# EAGLE library part 4116R-1-103LF (library Resistor Array)
RES ARRAY 8 RES 10K OHM 16DIP Manufacturer's datasheet <https://www.bourns.com/docs/Product-Datasheets/4100R.pdf>
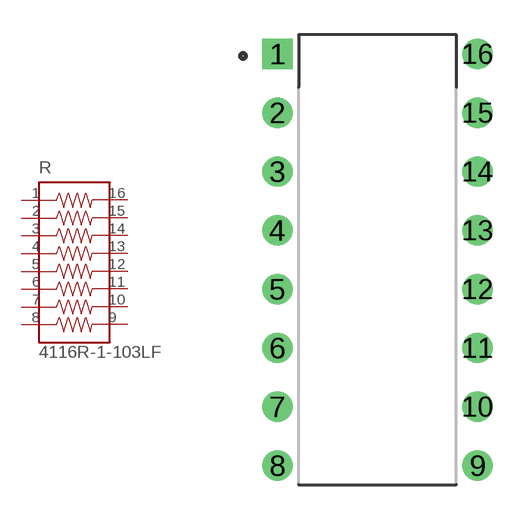
[diagram p11: symbol with the pads of 4116R-1-103LF; footprint 4116R-1-103LF]

Designator prefix R

## 4116R-1-103LF (CREATED_BY: PCBLayout.com; DIGIKEY_PN: 4116R-1-103LF-ND; MANUFACTURER: Bourns Inc.; MPN: 4116R-1-103LF; PACKAGE: DIP-16)  [4116R-1-103LF]
1  1  pas
2  2  pas
3  3  pas
4  4  pas
5  5  pas
6  6  pas
7  7  pas
8  8  pas
9  9  pas
10  10  pas
11  11  pas
12  12  pas
13  13  pas
14  14  pas
15  15  pas
16  16  pas

## Footprint 4116R-1-103LF (pad centres in mm)
drill 0.8 square: 1 -4.32,8.89
drill 0.8: 2 -4.32,6.35; 3 -4.32,3.81; 4 -4.32,1.27; 5 -4.32,-1.27; 6 -4.32,-3.81; 7 -4.32,-6.35; 8 -4.32,-8.89; 9 4.32,-8.89; 10 4.32,-6.35; 11 4.32,-3.81; 12 4.32,-1.27; 13 4.32,1.27; 14 4.32,3.81; 15 4.32,6.35; 16 4.32,8.89